# Altium schematic symbol library AUVic_Integrated_Library_Fuses.SchLib: 5 symbols
Pins are listed as number, name and electrical type; pins without a type are passive.

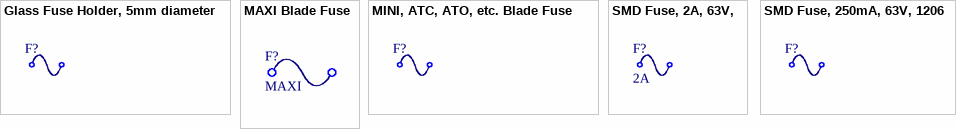
[diagram p0: symbols Glass Fuse Holder, 5mm diameter to SMD Fuse, 250mA, 63V, 1206]

## Glass Fuse Holder, 5mm diameter
designator F?, comment MINI  (value not drawn)
Cartridge Fuse Holder, 10A; Created By: Lyden Smith; Date Created: 2018-01-11; Type: MINI; Supplier 1: Digi-Key; Supplier Part Number 1: 507-1415-ND
footprint Glass Fuseholder 5mm x 20mm
pins: 1, 2

## MAXI Blade Fuse
designator F?, comment MAXI
MAXI Blade Fuse, 60A - 80A, PCB Footprint 50A; Type: MAXI; Created By: Lyden Smith; Date Created: 2017-10-11; Supplier 1: Digi-Key; Supplier Part Number 1: 36-3555-ND
footprint MAXI Blade FuseHolder
pins: 0, 1

## MINI, ATC, ATO, etc. Blade Fuse
designator F?, comment MINI  (value not drawn)
Blade Fuse Holder, 30A; Created By: Lyden Smith; Date Created: 2018-01-11; Supplier 1: Digi-Key; Supplier Part Number 1: 36-3557-2-ND; Type: MINI
footprint MINI BLADE FUSEHOLDER
pins: 1, 2

## SMD Fuse, 2A, 63V,
designator F?, comment 2A
SMD Fuse, 2A, 63V,; Created By: Poorna Chander Kalidas; Date Created: 2018-06-07; Type: SMD; Supplier 1: Digi-Key; ComponentLink1Description: Digi-Key; ComponentLink1URL: https://www.digikey.ca/product-detail/en/bel-fuse-inc/C1F-2/507-1881-1-ND/4968159; Supplier Part Number 1: 507-1881-6-ND; Current: 2A
footprint 1206 SMD
pins: 1, 2

## SMD Fuse, 250mA, 63V, 1206
designator F?, comment 250mA  (value not drawn)
SMD Fuse, 250mA, 63V, 1206; Created By: Lyden Smith; Date Created: 2018-02-05; Type: SMD; Supplier 1: Digi-Key; Supplier Part Number 1: 507-1073-6-ND; Current: 250mA
footprint 1206 SMD
pins: 1, 2